# Altium footprint library Smoothie_new_12_02.PcbLib: 39 footprints (part 3 of 3)
Each footprint in its own frame and in the unit in brackets; x right, y up, seen from the top. Pads: shape width x height; smd on the part's side, far side on the other; paste and mask are expansions set on the pad; w line width, h text height; cw(c..) or ccw(c..) is an arc to the next point about the centre after c.
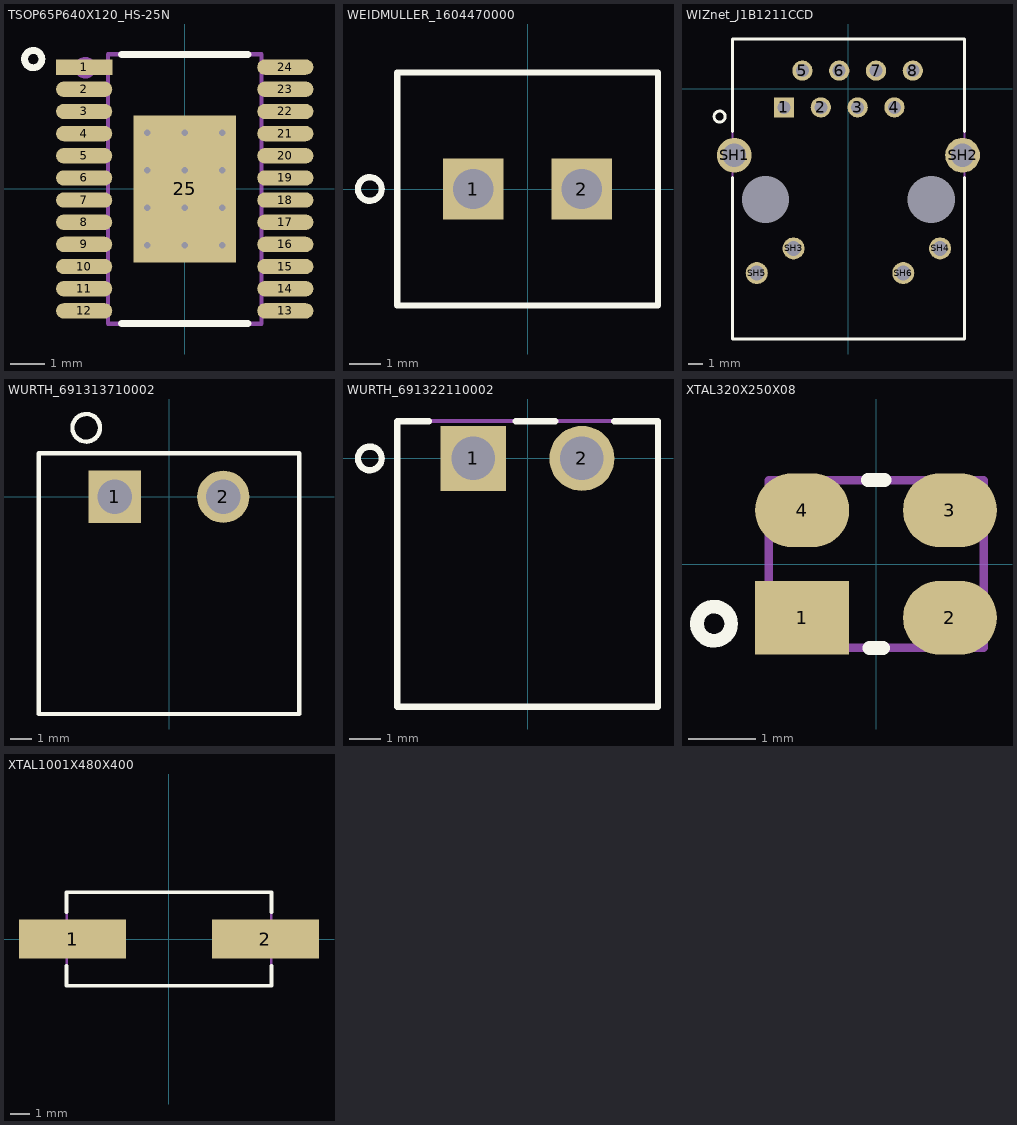
[diagram p2: the footprints below, top view; thin cyan lines are the x and y axes]

## TSOP65P640X120_HS-25N [mm] "TSOP, 24-Leads, Body 7.80x4.40mm, Pitch 0.65mm, Thermal Pad 4.32x3.00mm, IPC Medium Density"
height 1.2
pads (25):
  rect 1.65x0.45 smd mask+0.076: 1(-2.95,3.575)
  oval 1.65x0.45 smd mask+0.076: 2(-2.95,2.925) 3(-2.95,2.275) 4(-2.95,1.625) 5(-2.95,0.975) 6(-2.95,0.325) 7(-2.95,-0.325) 8(-2.95,-0.975) 9(-2.95,-1.625) 10(-2.95,-2.275) 11(-2.95,-2.925) 12(-2.95,-3.575) 13(2.95,-3.575) 14(2.95,-2.925) 15(2.95,-2.275) 16(2.95,-1.625) 17(2.95,-0.975) 18(2.95,-0.325) 19(2.95,0.325) 20(2.95,0.975) 21(2.95,1.625) 22(2.95,2.275) 23(2.95,2.925) 24(2.95,3.575)
  rect 3x4.32 smd: 25(0,0)
via -1.1,1.65 diameter 0.5 hole 0.2
via 0,1.65 diameter 0.5 hole 0.2
via 1.1,1.65 diameter 0.5 hole 0.2
via -1.1,0.55 diameter 0.5 hole 0.2
via 0,0.55 diameter 0.5 hole 0.2
via 1.1,0.55 diameter 0.5 hole 0.2
via -1.1,-0.55 diameter 0.5 hole 0.2
via 0,-0.55 diameter 0.5 hole 0.2
via 1.1,-0.55 diameter 0.5 hole 0.2
via -1.1,-1.65 diameter 0.5 hole 0.2
via 0,-1.65 diameter 0.5 hole 0.2
via 1.1,-1.65 diameter 0.5 hole 0.2
Top Overlay:
  circle w0.203: c-4.445,3.81 r0.254
  lines w0.203: -1.85,-3.95 1.85,-3.95 ; -1.85,3.95 1.85,3.95
Mechanical 1:
  text "'.Designator'" at 0,0 h1.52
Mechanical 15:
  circle w0.127: c-2.921,3.556 r0.254
  lines w0.127: -2.25,-3.95 -2.25,3.95 2.25,3.95 2.25,-3.95 -2.25,-3.95
3D body "TSOP65P640X120_HS-25N.step": height 1.2, standoff 0, extent -3.2,-3.95 3.2,3.95

## WEIDMULLER_1604470000 [mm]
height 11.1
pads (2):
  rect 1.95x1.95 hole 1.3: 1(-1.75,0) 2(1.75,0)
Top Overlay:
  circle w0.203: c-5.08,0 r0.381
  lines w0.203: -4.2,-3.75 4.2,-3.75 4.2,3.75 -4.2,3.75 -4.2,-3.75
Mechanical 1:
  text "'.Designator'" at 0,0 h1.52
Mechanical 15:
  circle w0.127: c-1.75,0 r0.381
  lines w0.127: -4.2,-3.75 -4.2,3.75 4.2,3.75 4.2,-3.75 -4.2,-3.75
3D body: height 11.1, standoff 0, extent -4.2,-3.75 4.2,3.75

## WIZnet_J1B1211CCD [mm]
height 13.6
pads (16):
  rect 0x0 hole 3.25 unplated: 0(-5.715,-7.62) 0(5.715,-7.62)
  rect 1.4x1.4 hole 0.9: 1(-4.445,-1.27)
  round 1.4 hole 0.9: 2(-1.905,-1.27) 3(0.635,-1.27) 4(3.175,-1.27) 5(-3.175,1.27) 6(-0.635,1.27) 7(1.905,1.27) 8(4.445,1.27)
  round 2.4 hole 1.6: SH1(-7.875,-4.57) SH2(7.875,-4.57)
  round 1.52 hole 1.02: SH3(-3.785,-11) SH4(6.325,-11) SH5(-6.325,-12.7) SH6(3.785,-12.7)
Top Overlay:
  circle w0.203: c-8.89,-1.905 r0.381
  lines w0.203: -8,-6.096 -8,-17.25 8,-17.25 8,-6.096 ; -8,-2.921 -8,3.45 8,3.45 8,-2.921
Mechanical 1:
  text "'.Designator'" at 0,0 h1.52
Mechanical 15:
  circle w0.127: c-4.445,-1.27 r0.508
  lines w0.127: -8,-17.25 8,-17.25 8,3.45 -8,3.45 -8,-17.25
3D body: height 13.6, standoff 0, extent -8,-17.25 8,3.45

## WURTH_691313710002 [mm]
height 8.5
pads (2):
  rect 2.4x2.4 hole 1.6: 1(-2.5,0)
  round 2.4 hole 1.6: 2(2.5,0)
Top Overlay:
  circle w0.203: c-3.81,3.175 r0.635
  lines w0.203: -6,-10 -6,2 6,2 6,-10 -6,-10
Mechanical 1:
  text "'.Designator'" at 0,0 h1.52
Mechanical 15:
  circle w0.127: c-2.54,0 r0.762
  lines w0.127: -6,-10 6,-10 6,2 -6,2 -6,-10
3D body: height 8.5, standoff 0, extent -6,-10 6,2

## WURTH_691322110002 [mm]
height 9.2
pads (2):
  rect 2.1x2.1 hole 1.4: 1(-1.75,0)
  round 2.1 hole 1.4: 2(1.75,0)
Top Overlay:
  circle w0.203: c-5.08,0 r0.381
  lines w0.203: -3.175,1.2 -4.2,1.2 -4.2,-8 4.2,-8 4.2,1.2 2.794,1.2 ; -0.381,1.2 0,1.2 0.889,1.2
Mechanical 1:
  text "'.Designator'" at 0,0 h1.52
Mechanical 15:
  circle w0.127: c-1.75,0 r0.635
  lines w0.127: -4.2,-8 4.2,-8 4.2,1.2 0,1.2 -4.2,1.2 -4.2,-8
3D body: height 9.2, standoff 0, extent -4.2,-8 4.2,1.2

## XTAL320X250X08 [mm]
height 0.7
pads (4):
  rect 1.4x1.1 smd: 1(-1.1,-0.8)
  oval 1.4x1.1 smd: 2(1.1,-0.8) 3(1.1,0.8) 4(-1.1,0.8)
Top Overlay:
  circle w0.203: c-2.413,-0.889 r0.254
  lines w0.203: -0.127,1.25 0.127,1.25 ; -0.102,-1.25 0.102,-1.25
Mechanical 1:
  text "'.Designator'" at 0,0 h1.52
Mechanical 15:
  circle w0.127: c-1.1,-0.8 r0.254
  lines w0.127: -1.6,-1.25 1.6,-1.25 1.6,1.25 -1.6,1.25 -1.6,-1.25
3D body: height 0.8, standoff 0, extent -1.6,-1.25 1.6,1.25

## XTAL1001X480X400 [mm]
height 4
pads (2):
  rect 5.5x2 smd: 1(-4.95,0) 2(4.95,0)
Top Overlay:
  lines w0.203: -5.25,-1.397 -5.25,-2.4 5.25,-2.4 5.25,-1.397 ; -5.25,1.397 -5.25,2.4 5.25,2.4 5.25,1.397
Mechanical 1:
  text "'.Designator'" at 0,0 h1.52
Mechanical 15:
  lines w0.127: -5.25,-2.4 -5.25,2.4 5.25,2.4 5.25,-2.4 -5.25,-2.4
3D body: height 4, standoff 0, extent -5.25,-2.4 5.25,2.4